# EAGLE library part MOLEX67068-8000USB_B (library Stecker)
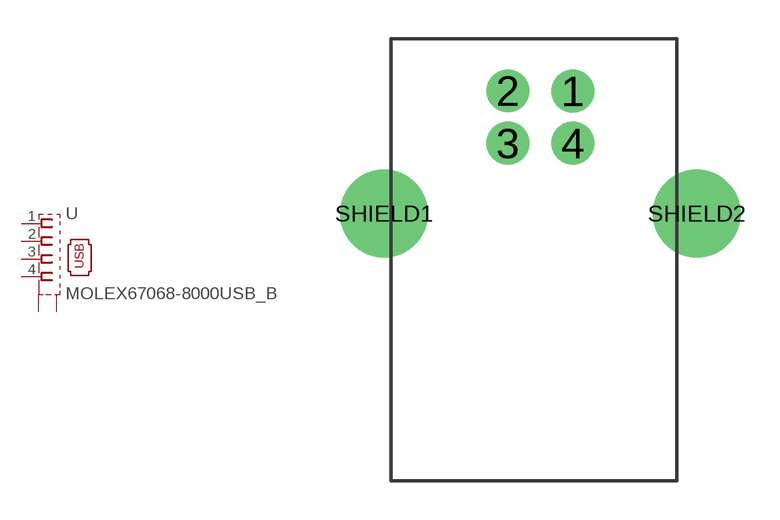
[diagram p2: symbol with the pads of MOLEX67068-8000; footprint MOLEX67068-8000]

Designator prefix -

## MOLEX67068-8000USB_B  [MOLEX67068-8000]
1  1  pas
2  2  pas
3  3  pas
4  4  pas
SHIELD1  S1  pas
SHIELD2  S2  pas

## Footprint MOLEX67068-8000 (pad centres in mm)
drill 1.1: 1 1,12.71; 2 -1.5,12.72; 3 -1.5,10.71; 4 1,10.71
drill 2.38: SHIELD1 -6.27,8; SHIELD2 5.77,8